# EAGLE library part XOR (library p.peter-gator)
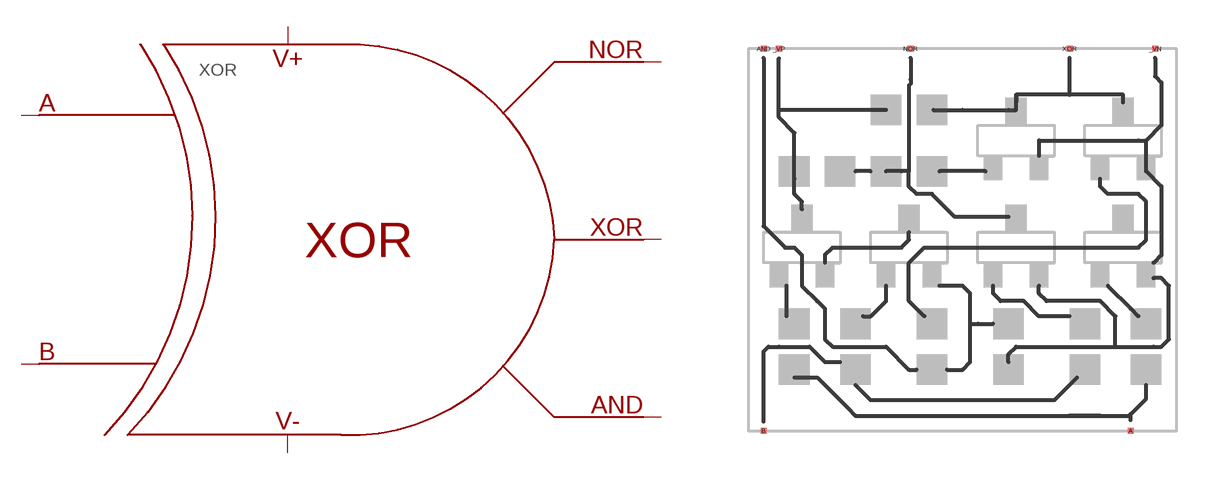
[diagram p0: symbol with the pads of XOR; footprint XOR]

Designator prefix XOR

## XOR  [XOR]
_VN  _VN
_VP  _VP
A  A
AND  AND
B  B
NOR  NOR
XOR  XOR

## Footprint XOR (pad centres in mm)
smd 0.2 x 0.2: _VN 13.3,12.5; _VP 1,12.5; A 12.5,0; AND 0.5,12.5; B 0.5,0; NOR 5.3,12.5; XOR 10.5,12.5